# Altium footprint library HS.PcbLib: 1 footprints
Each footprint in its own frame and in the unit in brackets; x right, y up, seen from the top. Pads: shape width x height; smd on the part's side, far side on the other; paste and mask are expansions set on the pad; w line width, h text height; cw(c..) or ccw(c..) is an arc to the next point about the centre after c.
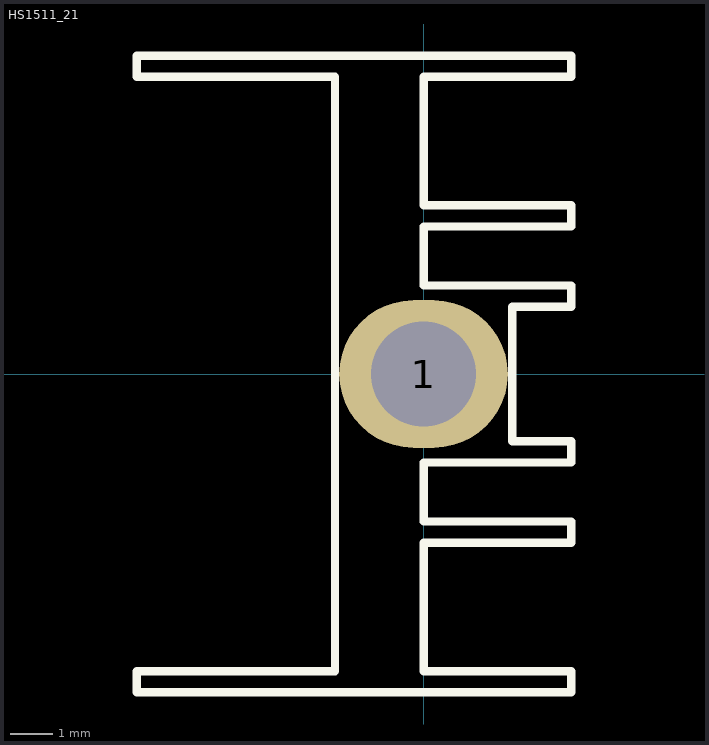
[diagram p0: the footprint, top view; thin cyan lines are the x and y axes]

## HS1511_21 [mm]
pads (1):
  oval 4x3.5 hole 2.5: 1(0,0)
Top Overlay:
  lines w0.2: -6.8,-7.55 -6.8,-7.05 -2.1,-7.05 -2.1,7.05 -6.8,7.05 -6.8,7.55 3.5,7.55 3.5,7.05 0,7.05 0,4 3.5,4 3.5,3.5 0,3.5 0,2.1 3.5,2.1 3.5,1.6 2.1,1.6 2.1,-1.6 3.5,-1.6 3.5,-2.1 0,-2.1 0,-3.5 3.5,-3.5 3.5,-4 0,-4 0,-7.05 3.5,-7.05 3.5,-7.55 -6.8,-7.55
3D body: height 21, standoff 0, extent -6.799,-7.549 3.499,7.549